# EAGLE library part BATTERY-MANAGEMENT-BQ298XYZ (library FlashPCB_ICs)
BQ298xyz - Battery Protection IC Technical Specifications: Function: Battery Protection Battery Chemistry: Lithium Ion/Polymer Number of Cells:1 Operating Temperature: -40°C ~ 85°C (TA) Component Search: BQ298xxx <https://www.flashpcb.com/components> Datasheet: BQ298xyz Voltage, Current, Temperature Protectors with an Integrated High-Side NFET Driver for Fast/Flash Charging Single-Cell Li-Ion and Li-Polymer Batteries datasheet (Rev. J) <https://www.ti.com/lit/ds/symlink/bq2980.pdf>
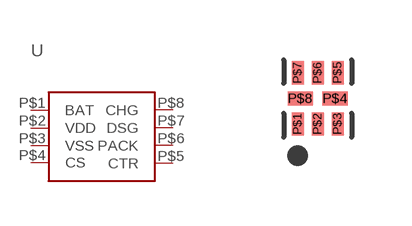
[diagram p25: symbol with the pads of 6-XFQFN; footprint 6-XFQFN]

Designator prefix U

## BATTERY-MANAGEMENT-BQ298XYZ  [6-XFQFN]
P$1  BAT
P$2  VDD
P$3  VSS
P$4  CS
P$5  CTR
P$6  PACK
P$7  DSG
P$8  CHG

## Footprint 6-XFQFN (pad centres in mm)
smd 0.3 x 0.58: P$1 -0.5,-0.64; P$2 0,-0.64; P$3 0.5,-0.64; P$5 0.5,0.64; P$6 0,0.64; P$7 -0.5,0.64
smd 0.63 x 0.35: P$4 0.435,0; P$8 -0.435,0